# Altium schematic symbol library ESPlam lai.SchLib: 1 symbol
Pins are listed as number, name and electrical type; pins without a type are passive.

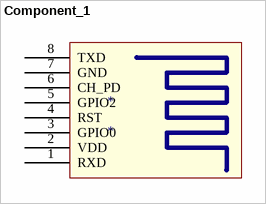
[diagram p0: symbol Component_1]

## Component_1
designator *
footprint ESP8266 ESP-01
pins: 1 RXD, 2 VDD, 3 GPIO0, 4 RST, 5 GPIO2, 6 CH_PD, 7 GND, 8 TXD